# Altium footprint library LLCC68.PcbLib: 42 footprints (part 2 of 3)
Each footprint in its own frame and in the unit in brackets; x right, y up, seen from the top. Pads: shape width x height; smd on the part's side, far side on the other; paste and mask are expansions set on the pad; w line width, h text height; cw(c..) or ccw(c..) is an arc to the next point about the centre after c.
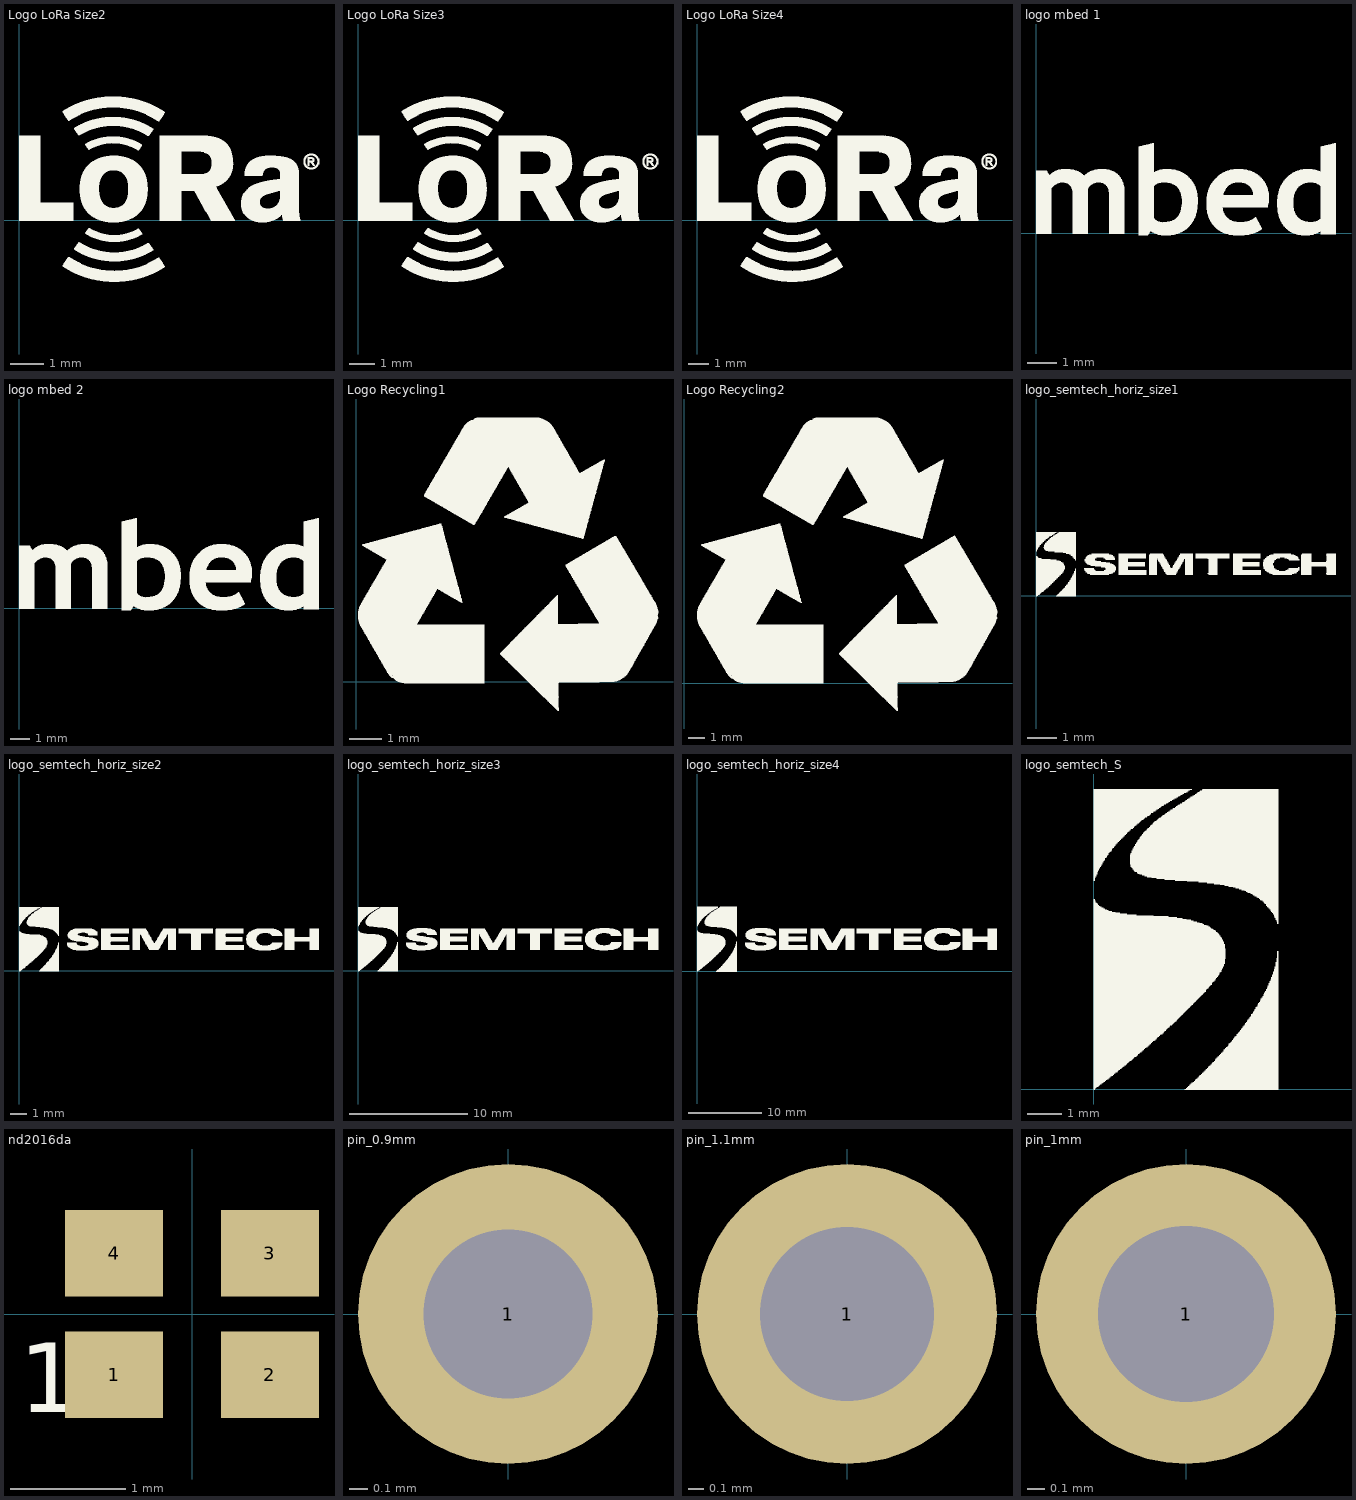
[diagram p1: the footprints below, top view; thin cyan lines are the x and y axes]

## Logo LoRa Size2 [mm] "Logo LoRa Size2 - Top Overlay - 9x5.5mm - Registered"
Top Overlay:
  drawing of 1298 lines, arcs and shapes, not listed

## Logo LoRa Size3 [mm] "Logo LoRa Size3 - Top Overlay - 14.5x8mm - Registered"
Top Overlay:
  drawing of 1298 lines, arcs and shapes, not listed
3D body: height 0.8, standoff 0.1, extent 2.3,-0.1 5.25,2.65

## Logo LoRa Size4 [mm] "Logo LoRa Size4 - Top Overlay - 18x9.5mm - Registered"
Top Overlay:
  drawing of 1298 lines, arcs and shapes, not listed

## logo mbed 1 [mm] "logo mbed 1"
height 0.2
Top Overlay:
  drawing of 1792 lines, arcs and shapes, not listed

## logo mbed 2 [mm] "logo mbed 2"
height 0.2
Top Overlay:
  drawing of 1792 lines, arcs and shapes, not listed

## Logo Recycling1 [mm] "Logo Recycling1"
height 0.1
Top Overlay:
  drawing of 3302 lines, arcs and shapes, not listed

## Logo Recycling2 [mm] "Logo Recycling2"
height 0.1
Top Overlay:
  drawing of 3309 lines, arcs and shapes, not listed

## logo_semtech_horiz_size1 [mm] "Logo semtech horizontal - size1 - S"
Top Overlay:
  drawing of 453 lines, arcs and shapes, not listed

## logo_semtech_horiz_size2 [mm] "Logo semtech horizontal - size2 - M"
Top Overlay:
  drawing of 790 lines, arcs and shapes, not listed

## logo_semtech_horiz_size3 [mm] "Logo semtech horizontal - size3 - L"
Top Overlay:
  drawing of 1137 lines, arcs and shapes, not listed

## logo_semtech_horiz_size4 [mm] "Logo semtech horizontal - size4 - XL"
Top Overlay:
  drawing of 1852 lines, arcs and shapes, not listed

## logo_semtech_S [mm] "Logo semtech S size4 - XL"
Top Overlay:
  drawing of 642 lines, arcs and shapes, not listed

## nd2016da [mm] "Crystal SMD 2.0x1.6mm"
height 0.55
pads (4):
  rect 0.85x0.75 smd mask+0.05: 1(-0.675,-0.525) 2(0.675,-0.525) 3(0.675,0.525) 4(-0.675,0.525)
Top Overlay:
  text "1" at -1.5,-0.85 h0.6
3D body: height 1, standoff 0, extent -1,-0.8 1,0.8

## pin_0.9mm [mm] "Generic Pin 0.9mm; 1 Lead"
height 1
pads (1):
  round 1.6 hole 0.9 mask+0.05: 1(0,0)

## pin_1.1mm [mm] "Generic Pin 1.1mm; 1 Lead"
height 1
pads (1):
  round 1.9 hole 1.1 mask+0.05: 1(0,0)

## pin_1mm [mm] "Generic Pin 1.1mm; 1 Lead"
height 1
pads (1):
  round 1.7 hole 1 paste+0 mask+0.05: 1(0,0)